# Altium schematic symbol library IC_ATMEL_ATTINY9.SchLib: 1 symbol
Pins are listed as number, name and electrical type; pins without a type are passive.

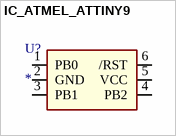
[diagram p0: symbol IC_ATMEL_ATTINY9]

## IC_ATMEL_ATTINY9
designator U?
pins: 1 PB0, 2 GND, 3 PB1, 4 PB2, 5 VCC, 6 /RST